# Altium footprint library Miscellaneous.PcbLib: 3 footprints
Each footprint in its own frame and in the unit in brackets; x right, y up, seen from the top. Pads: shape width x height; smd on the part's side, far side on the other; paste and mask are expansions set on the pad; w line width, h text height; cw(c..) or ccw(c..) is an arc to the next point about the centre after c.
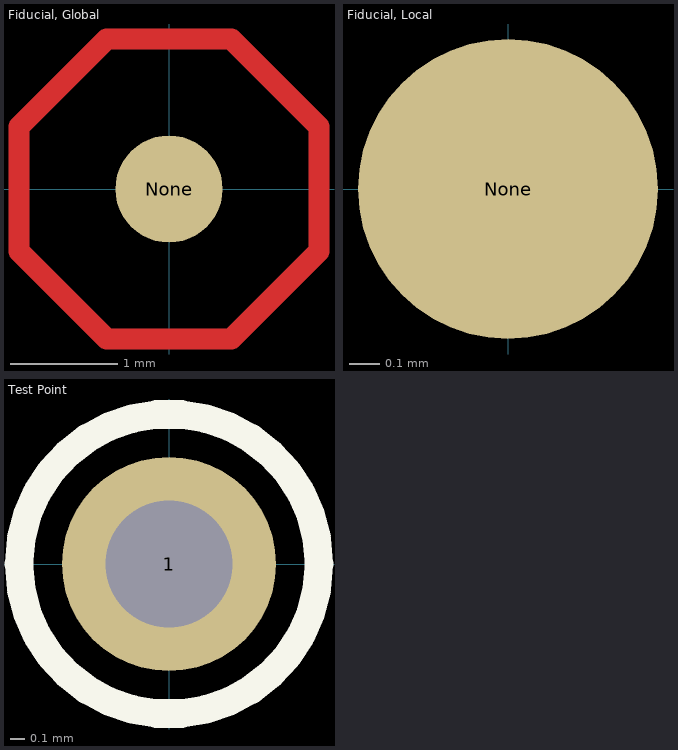
[diagram p0: the footprints below, top view; thin cyan lines are the x and y axes]

## Fiducial, Global [mm] "Global Fiducial Marker for Seeed Studio Fusion PCB"
pads (1):
  round 1 smd mask+0.5: None(0,0)
Top Layer:
  lines w0.2: -1.4,-0.58 -0.58,-1.4 0.58,-1.4 1.4,-0.58 1.4,0.58 0.58,1.4 -0.58,1.4 -1.4,0.58 -1.4,-0.58

## Fiducial, Local [mm] "Local Fiducial Marker for Seeed Studio Fusion PCB"
pads (1):
  round 1 smd mask+0.5: None(0,0)

## Test Point [mil]
pads (1):
  round 60 hole 35.43: 1(0,0)
Top Overlay:
  circle w8: c0,0 r42
Bottom Overlay:
  circle w8: c0,0 r42